# EAGLE library part CON_HEADER_2X3 (library HUM-ASM-001)
2x3 .1" header.
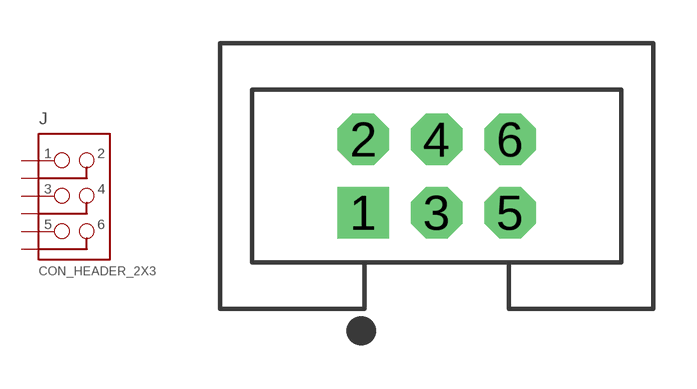
[diagram p8: symbol with the pads of 2X3-SHROUDED; footprint 2X3-SHROUDED]

Designator prefix J

## CON_HEADER_2X3-SHROUD (PROD_ID: CONN-11415; VALUE: FEMALE 2x3)  [2X3-SHROUDED]
1  1
2  2
3  3
4  4
5  5
6  6

## Footprint 2X3-SHROUDED (pad centres in mm)
drill 1.016 pad 1.778 square: 1 -2.54,-1.27
drill 1.016 pad 1.778 octagon: 2 -2.54,1.27; 3 0,-1.27; 4 0,1.27; 5 2.54,-1.27; 6 2.54,1.27